# EAGLE library part FTDI232 (library lieven)
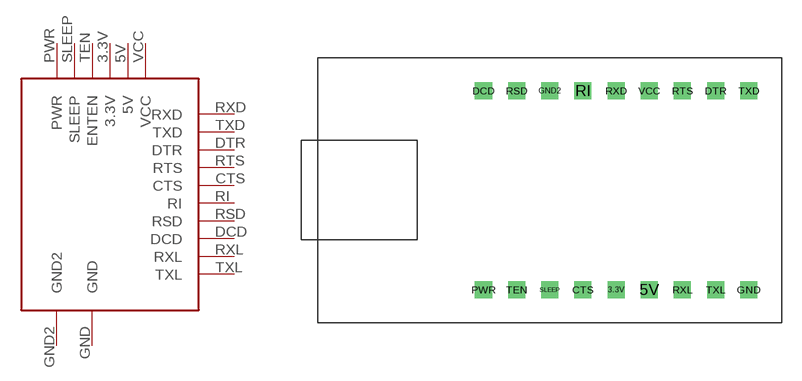
[diagram p20: symbol with the pads of FT232-MODULE; footprint FT232-MODULE]

Designator prefix -

## FTDI232  [FT232-MODULE]
3.3V  3.3V
5V  5V
CTS  CTS
DCD  DCD
DTR  DTR
GND  GND  pwr
GND2  GND2  pwr
PWR  PWR
RI  RI
RSD  RSD
RTS  RTS
RXD  RXD
RXL  RXL
SLEEP  SLEEP
TEN  ENTEN
TXD  TXD
TXL  TXL
VCC  VCC

## Footprint FT232-MODULE (pad centres in mm)
drill 0.8 square: 3.3V 2.54,-5.08; 5V 5.08,-5.08; CTS 0,-5.08; DCD -7.62,10.16; DTR 10.16,10.16; GND 12.7,-5.08; GND2 -2.54,10.16; PWR -7.62,-5.08; RI 0,10.16; RSD -5.08,10.16; RTS 7.62,10.16; RXD 2.54,10.16; RXL 7.62,-5.08; SLEEP -2.54,-5.08; TEN -5.08,-5.08; TXD 12.7,10.16; TXL 10.16,-5.08; VCC 5.08,10.16